# Altium schematic symbol library PCF8563T.SchLib: 1 symbol
Pins are listed as number, name and electrical type; pins without a type are passive.

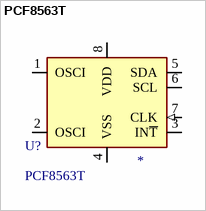
[diagram p0: symbol PCF8563T]

## PCF8563T
designator U?
I2C SOP-8  Real-time Clocks (RTC) ROHS; LCSC: *
footprint PCF8563T
pins: 1 OSCI, 2 OSCI, 3 IN~{T}, 4 VSS, 5 SDA, 6 SCL, 7 CLK (in), 8 VDD